# Altium schematic symbol library RomanK.SchLib: 16 symbols
Pins are listed as number, name and electrical type; pins without a type are passive.

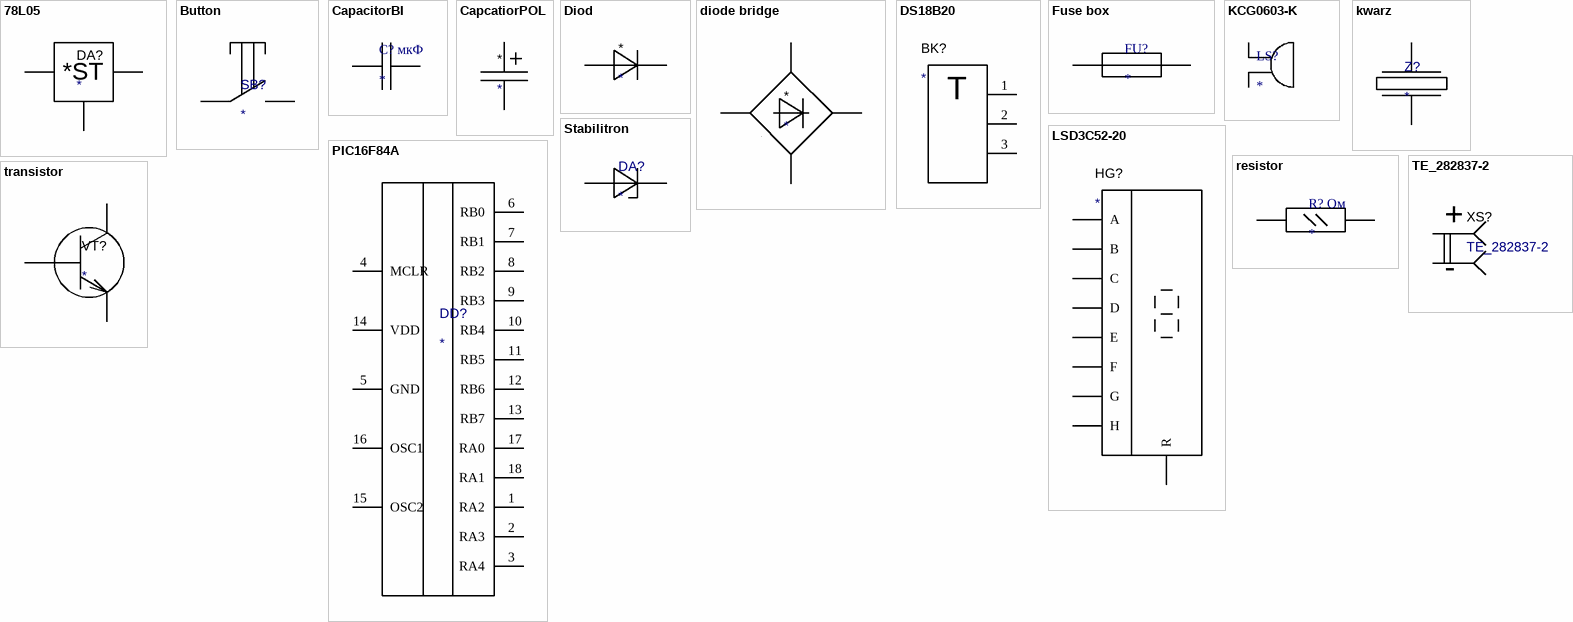
[diagram p0: symbols 78L05 to transistor]

## 78L05
designator DA?
footprint 78lo5 (SOT89, 3-Leads, Body 4,50x2,45mm, Pitch 1,57mm, Lead Span 4,1mm, IPC Medium Density)
pins: 1 out, 2 gnd, 3 in
text: *ST

## Button
designator SB?
footprint SW_800AWSP9M2QE (button)
pins: 1, 2

## CapacitorBI
designator C? мкФ
footprint CAPACITOR (Chip Capacitor, 2-Leads, Body 2,00x1,25mm, IPC Medium Density)
footprint c1 1uF 400v (ECAP (К50-35), 1мкФ, 400В, 105°C, 20%, 6x12мм)
footprint c3 c4 CAPC1608X90 (22 µF Molded Tantalum Capacitors 5 V 0603 (1608 Metric) 7.5Ohm)
pins: 1, 2

## CapcatiorPOL
designator *
footprint Polar CAPACITOR (Chip Capacitor, 2-Leads, Body 2,00x1,25mm, IPC Medium Density)
footprint c2 CAP ALUM 470UF 20% 25V SMD
footprint c6 CAP ALUM 1000UF 20% 16V SMD
pins: 1, 2

## Diod
designator *
footprint Диод US1A-13-F (Diode Standard 50 V 1A Surface Mount SMA)
pins: 1 63, 2 64

## diode bridge
designator *
footprint КЦ407А (Диодный мост) (CFP, 6-Leads, Body 7,50x6,00mm (max), Pitch 2,50mm, IPC Medium Density)
pins: 1 1 or 6, 2, 4 3 or 4, 5

## DS18B20
designator BK?
footprint ds18b20 (Temperature)
pins: 1 GND, 2 DQ, 3 VDD
text: T

## Fuse box
designator FU?
footprint SMD06025C2 (Плавкий предохранитель)
pins: 1, 2

## KCG0603-K
designator LS?
Magnetic Transducer Passive Buzzer [Kingstate], Pin Type, Dimensions(mm): 6.60*3.50, Voltage: 2.0~5.0, Max current consumption(mA): Max. 80, Coil resistance(Î©): 16.0Â±3.0, SPL(dB): Min. 75dB(Typical 80)@10cm, Frequency(KHz): 3.00.; MP: KCG0603-K; Price: None; SnapEDA_Link: https://www.snapeda.com/parts/KCG0603-K/Kingstate/view-part/?ref=snap; MF: Kingstate; Check_prices: https://www.snapeda.com/parts/KCG0603-K/Kingstate/view-part/?ref=eda; Package: None; Availability: In Stock; Value: *
footprint KCG0603-K Пищалка
pins: 1 POS, 2 NEG

## kwarz
designator Z?
footprint Кварц  hc-49sm (4.000 МГц HC-49SM, Кварцевый резонатор)
pins: 1, 2

## LSD3C52-20
designator HG?
footprint LSD3C52-20 (7 segment)
pins: 1 A, 2 F, 3 G, 4 E, 5 D, 6 R, 7 H, 8 C, 10 B

## PIC16F84A
designator DD?
footprint PIC16F84A (SOIC, 18-Leads, Body 11,53x7,49mm, Pitch 1,27mm, IPC Medium Density)
pins: 1 RA2, 2 RA3, 3 RA4, 4 MCLR, 5 GND, 6 RB0, 7 RB1, 8 RB2, 9 RB3, 10 RB4, 11 RB5, 12 RB6, 13 RB7, 14 VDD, 15 OSC2, 16 OSC1, 17 RA0, 18 RA1

## resistor
designator R? Ом
footprint RES 0805 (Chip Resistor, 2-Leads, Body 2,00x1,25mm, IPC Medium Density)
pins: 1 43, 2 42

## Stabilitron
designator DA?
footprint Стабилитрон DIOM5436X247N (Zener Diode 15 V 3 W ±5% Surface Mount SMB)
pins: 1, 2

## TE_282837-2
designator XS?
footprint Питание TE_282837-2 (282837-2 Connector Terminal Blocks Receptacle 2 Position 5.08mm Solder Straight Thru-Hole 13.5A/Contact)
pins: 1 -, 2 +

## transistor
designator VT?
footprint КТ315Б (TO, 4-Pads, Body 5,60x6,96mm (max), IPC Medium Density)
pins: 1, 2, 3